# EAGLE library part TEENSY3.2 (library arcs_library)
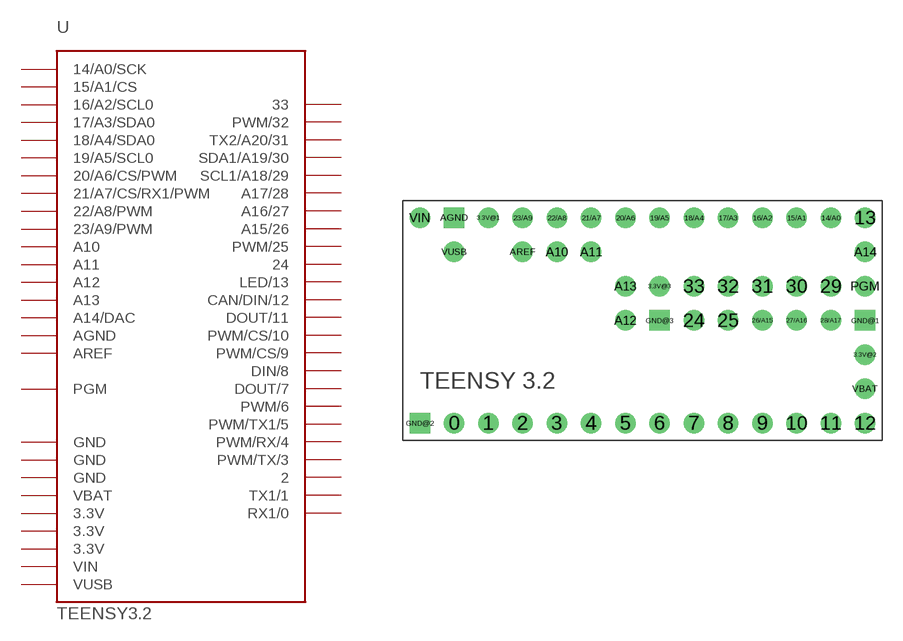
[diagram p10: symbol with the pads of TEENSY3.2; footprint TEENSY3.2]

Designator prefix -

## TEENSY3.2  [TEENSY3.2]
0  RX1/0
1  TX1/1
2  2
3  PWM/TX/3
3.3V@1  3.3V
3.3V@2  3.3V
3.3V@3  3.3V
4  PWM/RX/4
5  PWM/TX1/5
6  PWM/6
7  DOUT/7
8  DIN/8
9  PWM/CS/9
10  PWM/CS/10
11  DOUT/11
12  CAN/DIN/12
13  LED/13
14/A0  14/A0/SCK
15/A1  15/A1/CS
16/A2  16/A2/SCL0
17/A3  17/A3/SDA0
18/A4  18/A4/SDA0
19/A5  19/A5/SCL0
20/A6  20/A6/CS/PWM
21/A7  21/A7/CS/RX1/PWM
22/A8  22/A8/PWM
23/A9  23/A9/PWM
24  24
25  PWM/25
26/A15  A15/26
27/A16  A16/27
28/A17  A17/28
29  SCL1/A18/29
30  SDA1/A19/30
31  TX2/A20/31
32  PWM/32
33  33
A10  A10
A11  A11
A12  A12
A13  A13
A14  A14/DAC
AGND  AGND
AREF  AREF
GND@1  GND
GND@2  GND
GND@3  GND
PGM  PGM
VBAT  VBAT
VIN  VIN
VUSB  VUSB

## Footprint TEENSY3.2 (pad centres in mm)
drill 1.02: 0 3.81,1.27; 1 6.35,1.27; 2 8.89,1.27; 3 11.43,1.27; 3.3V@1 6.35,16.51; 3.3V@2 34.29,6.35; 3.3V@3 19.05,11.43; 4 13.97,1.27; 5 16.51,1.27; 6 19.05,1.27; 7 21.59,1.27; 8 24.13,1.27; 9 26.67,1.27; 10 29.21,1.27; 11 31.75,1.27; 12 34.29,1.27; 13 34.29,16.51; 14/A0 31.75,16.51; 15/A1 29.21,16.51; 16/A2 26.67,16.51; 17/A3 24.13,16.51; 18/A4 21.59,16.51; 19/A5 19.05,16.51; 20/A6 16.51,16.51; 21/A7 13.97,16.51; 22/A8 11.43,16.51; 23/A9 8.89,16.51; 24 21.59,8.89; 25 24.13,8.89; 26/A15 26.67,8.89; 27/A16 29.21,8.89; 28/A17 31.75,8.89; 29 31.75,11.43; 30 29.21,11.43; 31 26.67,11.43; 32 24.13,11.43; 33 21.59,11.43; A10 11.43,13.97; A11 13.97,13.97; A12 16.51,8.89; A13 16.51,11.43; A14 34.29,13.97; AREF 8.89,13.97; PGM 34.29,11.43; VBAT 34.29,3.81; VIN 1.27,16.51; VUSB 3.81,13.97
drill 1.02 square: AGND 3.81,16.51; GND@1 34.29,8.89; GND@2 1.27,1.27; GND@3 19.05,8.89